# Altium footprint library F83A30800331.PcbLib: 1 footprints
Each footprint in its own frame and in the unit in brackets; x right, y up, seen from the top. Pads: shape width x height; smd on the part's side, far side on the other; paste and mask are expansions set on the pad; w line width, h text height; cw(c..) or ccw(c..) is an arc to the next point about the centre after c.
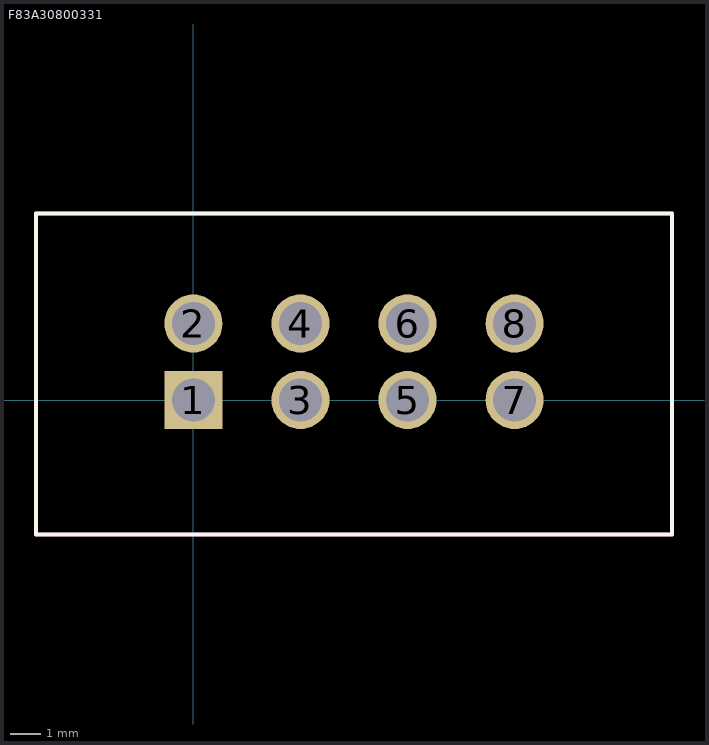
[diagram p0: the footprint, top view; thin cyan lines are the x and y axes]

## F83A30800331 [mm] "Pitch 3.5mm 2X4Pin Voltage rating 300V Current rating 12A  Withstanding Voltage 2500VAC"
height 14.2
pads (8):
  rect 1.9x1.9 hole 1.4: 1(0,0)
  round 1.9 hole 1.4: 2(0,2.5) 3(3.5,0) 4(3.5,2.5) 5(7,0) 6(7,2.5) 7(10.5,0) 8(10.5,2.5)
Top Overlay:
  lines w0.127: -5.15,-4.4 -5.15,6.1 15.65,6.1 15.65,-4.4 -5.15,-4.4
Mechanical 15:
  lines w0.127: -5.15,-4.4 15.65,-4.4 15.65,6.1 -5.15,6.1 -5.15,-4.4
3D body: height 18, standoff 0.25, extent 14.5,-3.966 15.537,6.448
3D body: height 18, standoff 0.25, extent -5.042,-3.953 -4.005,6.461
3D body: height 17.7, standoff -3.5, extent -4,-4 14.5,6.5